# EAGLE library part FLAT_FLEX_8 (library FLAT_FLEX)
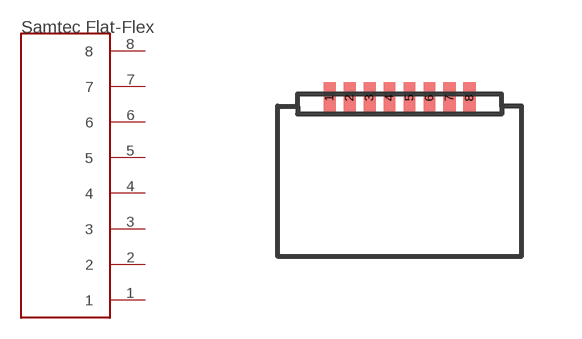
[diagram p0: symbol with the pads of FLAT_FLEX_8; footprint FLAT_FLEX_8]

Designator prefix -

## FLAT_FLEX_8  [FLAT_FLEX_8]
1  1
2  2
3  3
4  4
5  5
6  6
7  7
8  8

## Footprint FLAT_FLEX_8 (pad centres in mm)
smd 0.3 x 0.8: 1 1.3,3.95; 2 1.8,3.95; 3 2.3,3.95; 4 2.8,3.95; 5 3.3,3.95; 6 3.8,3.95; 7 4.3,3.95; 8 4.8,3.95